# Altium footprint library Net-Tie-I8.PcbLib: 50 footprints (part 2 of 4)
Each footprint in its own frame and in the unit in brackets; x right, y up, seen from the top. Pads: shape width x height; smd on the part's side, far side on the other; paste and mask are expansions set on the pad; w line width, h text height; cw(c..) or ccw(c..) is an arc to the next point about the centre after c.
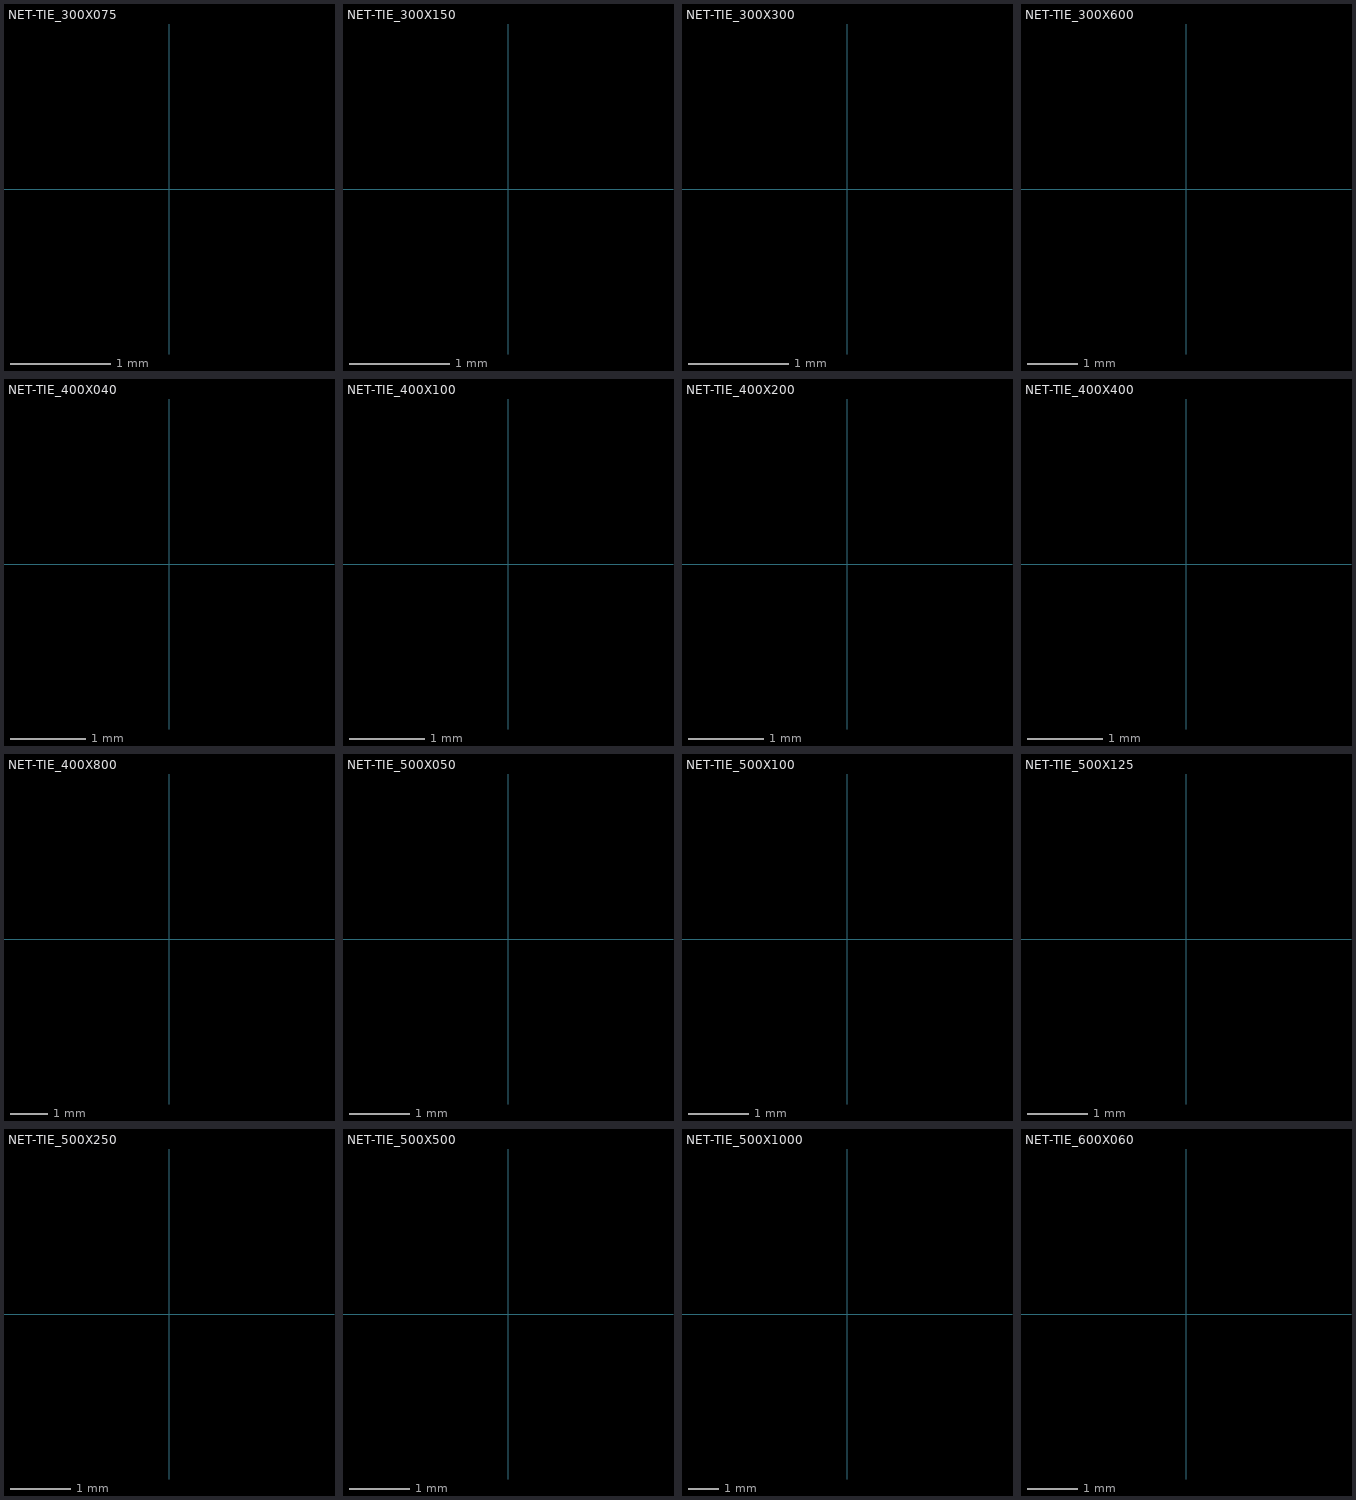
[diagram p1: the footprints below, top view; thin cyan lines are the x and y axes]

## NET-TIE_300X075 [mil]
pads (2):
  round 1 on Mid8 paste-99999 mask+4: 1(-7.38,0) 2(7.38,0)
Inner 8:
  region: 7.38,-59.06 0,-59.06 0,59.06 7.38,59.06 8.11,59.06 9.54,58.77 10.88,58.21 12.09,57.41 13.12,56.38 13.92,55.17 14.48,53.83 14.76,52.4 14.76,51.67 14.76,-51.67 14.76,-52.4 14.48,-53.83 13.92,-55.17 13.12,-56.38 12.09,-57.41 10.88,-58.21 9.54,-58.77 8.11,-59.06
  region: -14.76,-51.67 -14.76,-52.4 -14.48,-53.83 -13.92,-55.17 -13.12,-56.38 -12.09,-57.41 -10.88,-58.21 -9.54,-58.77 -8.11,-59.06 -7.38,-59.06 0,-59.06 0,59.06 -7.38,59.06 -8.11,59.06 -9.54,58.77 -10.88,58.21 -12.09,57.41 -13.12,56.38 -13.92,55.17 -14.48,53.83 -14.76,52.4 -14.76,51.67

## NET-TIE_300X150 [mil]
pads (2):
  round 1 on Mid8 paste-99999 mask+4: 1(-14.76,0) 2(14.76,0)
Inner 8:
  region: -29.53,-44.29 -29.53,-45.75 -28.96,-48.6 -27.85,-51.28 -26.23,-53.7 -24.18,-55.76 -21.76,-57.37 -19.07,-58.49 -16.22,-59.06 -14.76,-59.06 0,-59.06 0,59.06 -14.76,59.06 -16.22,59.06 -19.07,58.49 -21.76,57.37 -24.18,55.76 -26.23,53.7 -27.85,51.28 -28.96,48.6 -29.53,45.75 -29.53,44.29
  region: 14.76,-59.06 0,-59.06 0,59.06 14.76,59.06 16.22,59.06 19.07,58.49 21.76,57.37 24.18,55.76 26.23,53.7 27.85,51.28 28.96,48.6 29.53,45.75 29.53,44.29 29.53,-44.29 29.53,-45.75 28.96,-48.6 27.85,-51.28 26.23,-53.7 24.18,-55.76 21.76,-57.37 19.07,-58.49 16.22,-59.06

## NET-TIE_300X300 [mil]
pads (2):
  round 1 on Mid8 paste-99999 mask+4: 1(-29.53,0) 2(29.53,0)
Inner 8:
  region: -59.06,-29.53 -59.06,-31.46 -58.55,-35.3 -57.55,-39.04 -56.07,-42.62 -54.13,-45.97 -51.78,-49.04 -49.04,-51.78 -45.97,-54.13 -42.62,-56.07 -39.04,-57.55 -35.3,-58.55 -31.46,-59.06 -29.53,-59.06 0,-59.06 0,59.06 -29.53,59.06 -31.46,59.06 -35.3,58.55 -39.04,57.55 -42.62,56.07 -45.97,54.13 -49.04,51.78 -51.78,49.04 -54.13,45.97 -56.07,42.62 -57.55,39.04 -58.55,35.3 -59.06,31.46 -59.06,29.53
  region: 29.53,-59.06 0,-59.06 0,59.06 29.53,59.06 31.46,59.06 35.3,58.55 39.04,57.55 42.62,56.07 45.97,54.13 49.04,51.78 51.78,49.04 54.13,45.97 56.07,42.62 57.55,39.04 58.55,35.3 59.06,31.46 59.06,29.53 59.06,-29.53 59.06,-31.46 58.55,-35.3 57.55,-39.04 56.07,-42.62 54.13,-45.97 51.78,-49.04 49.04,-51.78 45.97,-54.13 42.62,-56.07 39.04,-57.55 35.3,-58.55 31.46,-59.06

## NET-TIE_300X600 [mil]
pads (2):
  round 1 on Mid8 paste-99999 mask+4: 1(-59.06,0) 2(59.06,0)
Inner 8:
  region: -59.06,-59.06 -61.96,-59.06 -67.73,-58.49 -73.42,-57.35 -78.97,-55.67 -84.33,-53.45 -89.45,-50.71 -94.28,-47.49 -98.76,-43.81 -102.86,-39.71 -106.55,-35.22 -109.77,-30.4 -112.5,-25.28 -114.73,-19.92 -116.41,-14.37 -117.54,-8.68 -118.11,-2.9 -118.11,0 -118.11,2.9 -117.54,8.68 -116.41,14.37 -114.73,19.92 -112.5,25.28 -109.77,30.4 -106.55,35.22 -102.86,39.71 -98.76,43.81 -94.28,47.49 -89.45,50.71 -84.33,53.45 -78.97,55.67 -73.42,57.35 -67.73,58.49 -61.96,59.06 -59.06,59.06 0,59.06 0,-59.06
  region: 59.06,-59.06 0,-59.06 0,59.06 59.06,59.06 61.96,59.06 67.73,58.49 73.42,57.35 78.97,55.67 84.33,53.45 89.45,50.71 94.28,47.49 98.76,43.81 102.86,39.71 106.55,35.22 109.77,30.4 112.5,25.28 114.73,19.92 116.41,14.37 117.54,8.68 118.11,2.9 118.11,0 118.11,-2.9 117.54,-8.68 116.41,-14.37 114.73,-19.92 112.5,-25.28 109.77,-30.4 106.55,-35.22 102.86,-39.71 98.76,-43.81 94.28,-47.49 89.45,-50.71 84.33,-53.45 78.97,-55.67 73.42,-57.35 67.73,-58.49 61.96,-59.05

## NET-TIE_400X040 [mil]
pads (2):
  round 1 on Mid8 paste-99999 mask+4: 1(-3.94,0) 2(3.94,0)
Inner 8:
  region: -7.87,-74.8 -7.87,-75.59 -7.27,-77.03 -6.17,-78.14 -4.72,-78.74 -3.94,-78.74 0,-78.74 0,78.74 -3.94,78.74 -4.72,78.74 -6.17,78.14 -7.27,77.03 -7.87,75.59 -7.87,74.8
  region: 3.94,-78.74 0,-78.74 0,78.74 3.94,78.74 4.72,78.74 6.17,78.14 7.27,77.03 7.87,75.59 7.87,74.8 7.87,-74.8 7.87,-75.59 7.27,-77.03 6.17,-78.14 4.72,-78.74

## NET-TIE_400X100 [mil]
pads (2):
  round 1 on Mid8 paste-99999 mask+4: 1(-9.84,0) 2(9.84,0)
Inner 8:
  region: 9.84,-78.74 0,-78.74 0,78.74 9.84,78.74 10.81,78.74 12.71,78.36 14.5,77.62 16.12,76.54 17.49,75.17 18.56,73.56 19.31,71.77 19.68,69.87 19.68,68.9 19.68,-68.9 19.68,-69.87 19.31,-71.77 18.56,-73.56 17.49,-75.17 16.12,-76.54 14.5,-77.62 12.71,-78.36 10.81,-78.74
  region: -19.68,-68.9 -19.68,-69.87 -19.31,-71.77 -18.56,-73.56 -17.49,-75.17 -16.12,-76.54 -14.5,-77.62 -12.71,-78.36 -10.81,-78.74 -9.84,-78.74 0,-78.74 0,78.74 -9.84,78.74 -10.81,78.74 -12.71,78.36 -14.5,77.62 -16.12,76.54 -17.49,75.17 -18.56,73.56 -19.31,71.77 -19.68,69.87 -19.68,68.9

## NET-TIE_400X200 [mil]
pads (2):
  round 1 on Mid8 paste-99999 mask+4: 1(-19.68,0) 2(19.68,0)
Inner 8:
  region: 19.68,-78.74 0,-78.74 0,78.74 19.68,78.74 21.62,78.74 25.43,77.98 29.01,76.5 32.23,74.35 34.98,71.6 37.13,68.38 38.61,64.8 39.37,60.99 39.37,59.06 39.37,-59.06 39.37,-60.99 38.61,-64.8 37.13,-68.38 34.98,-71.6 32.23,-74.35 29.01,-76.5 25.43,-77.98 21.62,-78.74
  region: -39.37,-59.06 -39.37,-60.99 -38.61,-64.8 -37.13,-68.38 -34.98,-71.6 -32.23,-74.35 -29.01,-76.5 -25.43,-77.98 -21.62,-78.74 -19.68,-78.74 0,-78.74 0,78.74 -19.68,78.74 -21.62,78.74 -25.43,77.98 -29.01,76.5 -32.23,74.35 -34.98,71.6 -37.13,68.38 -38.61,64.8 -39.37,60.99 -39.37,59.06

## NET-TIE_400X400 [mil]
pads (2):
  round 1 on Mid8 paste-99999 mask+4: 1(-39.37,0) 2(39.37,0)
Inner 8:
  region: 39.37,-78.74 0,-78.74 0,78.74 39.37,78.74 41.95,78.74 47.07,78.07 52.05,76.73 56.82,74.76 61.29,72.18 65.38,69.03 69.03,65.38 72.18,61.29 74.76,56.82 76.73,52.05 78.07,47.07 78.74,41.95 78.74,39.37 78.74,-39.37 78.74,-41.95 78.07,-47.07 76.73,-52.05 74.76,-56.82 72.18,-61.29 69.03,-65.38 65.38,-69.03 61.29,-72.18 56.82,-74.76 52.05,-76.73 47.07,-78.07 41.95,-78.74
  region: -78.74,-39.37 -78.74,-41.95 -78.07,-47.07 -76.73,-52.05 -74.76,-56.82 -72.18,-61.29 -69.03,-65.38 -65.38,-69.03 -61.29,-72.18 -56.82,-74.76 -52.05,-76.73 -47.07,-78.07 -41.95,-78.74 -39.37,-78.74 0,-78.74 0,78.74 -39.37,78.74 -41.95,78.74 -47.07,78.07 -52.05,76.73 -56.82,74.76 -61.29,72.18 -65.38,69.03 -69.03,65.38 -72.18,61.29 -74.76,56.82 -76.73,52.05 -78.07,47.07 -78.74,41.95 -78.74,39.37

## NET-TIE_400X800 [mil]
pads (2):
  round 1 on Mid8 paste-99999 mask+4: 1(-78.74,0) 2(78.74,0)
Inner 8:
  region: -78.74,-78.74 -82.61,-78.74 -90.31,-77.98 -97.9,-76.47 -105.3,-74.23 -112.45,-71.27 -119.27,-67.62 -125.7,-63.32 -131.68,-58.41 -137.15,-52.94 -142.06,-46.96 -146.36,-40.53 -150.01,-33.71 -152.97,-26.56 -155.21,-19.16 -156.72,-11.57 -157.48,-3.87 -157.48,0 -157.48,3.87 -156.72,11.57 -155.21,19.16 -152.97,26.56 -150.01,33.71 -146.36,40.53 -142.06,46.96 -137.15,52.94 -131.68,58.41 -125.7,63.32 -119.27,67.62 -112.45,71.27 -105.3,74.23 -97.9,76.47 -90.31,77.98 -82.61,78.74 -78.74,78.74 0,78.74 0,-78.74
  region: 78.74,-78.74 0,-78.74 0,78.74 78.74,78.74 82.61,78.74 90.31,77.98 97.9,76.47 105.3,74.23 112.45,71.27 119.27,67.62 125.7,63.32 131.68,58.41 137.15,52.94 142.06,46.96 146.36,40.53 150.01,33.71 152.97,26.56 155.21,19.16 156.72,11.57 157.48,3.87 157.48,0 157.48,-3.87 156.72,-11.57 155.21,-19.16 152.97,-26.56 150.01,-33.71 146.36,-40.53 142.06,-46.96 137.15,-52.94 131.68,-58.41 125.7,-63.32 119.27,-67.62 112.45,-71.27 105.3,-74.23 97.9,-76.47 90.31,-77.98 82.61,-78.74

## NET-TIE_500X050 [mil]
pads (2):
  round 1 on Mid8 paste-99999 mask+4: 1(-4.92,0) 2(4.92,0)
Inner 8:
  region: 4.92,-98.43 0,-98.43 0,98.43 4.92,98.43 5.9,98.43 7.71,97.68 9.09,96.29 9.84,94.48 9.84,93.5 9.84,-93.5 9.84,-94.48 9.09,-96.29 7.71,-97.68 5.9,-98.43
  region: -9.84,-93.5 -9.84,-94.48 -9.09,-96.29 -7.71,-97.68 -5.9,-98.43 -4.92,-98.43 0,-98.43 0,98.43 -4.92,98.43 -5.9,98.43 -7.71,97.68 -9.09,96.29 -9.84,94.48 -9.84,93.5

## NET-TIE_500X100 [mil]
pads (2):
  round 1 on Mid8 paste-99999 mask+4: 1(-9.84,0) 2(9.84,0)
Inner 8:
  region: 9.84,-98.43 0,-98.43 0,98.43 9.84,98.43 10.81,98.43 12.71,98.05 14.5,97.31 16.12,96.23 17.49,94.86 18.56,93.24 19.31,91.45 19.68,89.55 19.68,88.58 19.68,-88.58 19.68,-89.55 19.31,-91.45 18.56,-93.24 17.49,-94.86 16.12,-96.23 14.5,-97.31 12.71,-98.05 10.81,-98.43
  region: -19.68,-88.58 -19.68,-89.55 -19.31,-91.45 -18.56,-93.24 -17.49,-94.86 -16.12,-96.23 -14.5,-97.31 -12.71,-98.05 -10.81,-98.43 -9.84,-98.43 0,-98.43 0,98.43 -9.84,98.43 -10.81,98.43 -12.71,98.05 -14.5,97.31 -16.12,96.23 -17.49,94.86 -18.56,93.24 -19.31,91.45 -19.68,89.55 -19.68,88.58

## NET-TIE_500X125 [mil]
pads (2):
  round 1 on Mid8 paste-99999 mask+4: 1(-12.3,0) 2(12.3,0)
Inner 8:
  region: 12.3,-98.43 0,-98.43 0,98.43 12.3,98.43 13.51,98.43 15.89,97.95 18.13,97.02 20.15,95.68 21.86,93.96 23.21,91.95 24.13,89.71 24.61,87.33 24.61,86.12 24.61,-86.12 24.61,-87.33 24.13,-89.71 23.21,-91.95 21.86,-93.96 20.15,-95.68 18.13,-97.02 15.89,-97.95 13.51,-98.43
  region: -24.61,-86.12 -24.61,-87.33 -24.13,-89.71 -23.21,-91.95 -21.86,-93.96 -20.15,-95.68 -18.13,-97.02 -15.89,-97.95 -13.51,-98.43 -12.3,-98.43 0,-98.43 0,98.43 -12.3,98.43 -13.51,98.43 -15.89,97.95 -18.13,97.02 -20.15,95.68 -21.86,93.96 -23.21,91.95 -24.13,89.71 -24.61,87.33 -24.61,86.12

## NET-TIE_500X250 [mil]
pads (2):
  round 1 on Mid8 paste-99999 mask+4: 1(-24.61,0) 2(24.61,0)
Inner 8:
  region: -49.21,-73.82 -49.21,-75.43 -48.79,-78.63 -47.96,-81.75 -46.72,-84.73 -45.11,-87.52 -43.15,-90.08 -40.87,-92.36 -38.31,-94.32 -35.51,-95.93 -32.53,-97.17 -29.42,-98 -26.22,-98.43 -24.61,-98.43 0,-98.43 0,98.43 -24.61,98.43 -26.22,98.43 -29.42,98 -32.53,97.17 -35.51,95.93 -38.31,94.32 -40.87,92.36 -43.15,90.08 -45.11,87.52 -46.72,84.73 -47.96,81.75 -48.79,78.63 -49.21,75.43 -49.21,73.82
  region: 24.61,-98.43 0,-98.43 0,98.43 24.61,98.43 26.22,98.43 29.42,98 32.53,97.17 35.51,95.93 38.31,94.32 40.87,92.36 43.15,90.08 45.11,87.52 46.72,84.73 47.96,81.75 48.79,78.63 49.21,75.43 49.21,73.82 49.21,-73.82 49.21,-75.43 48.79,-78.63 47.96,-81.75 46.72,-84.73 45.11,-87.52 43.15,-90.08 40.87,-92.36 38.31,-94.32 35.51,-95.93 32.53,-97.17 29.42,-98 26.22,-98.43

## NET-TIE_500X500 [mil]
pads (2):
  round 1 on Mid8 paste-99999 mask+4: 1(-49.21,0) 2(49.21,0)
Inner 8:
  region: -98.43,-49.21 -98.43,-51.63 -97.95,-56.44 -97.01,-61.18 -95.6,-65.81 -93.75,-70.28 -91.47,-74.54 -88.79,-78.56 -85.72,-82.3 -82.3,-85.72 -78.56,-88.79 -74.54,-91.47 -70.28,-93.75 -65.81,-95.6 -61.18,-97.01 -56.44,-97.95 -51.63,-98.43 -49.21,-98.43 0,-98.43 0,98.43 -49.21,98.43 -51.63,98.43 -56.44,97.95 -61.18,97.01 -65.81,95.6 -70.28,93.75 -74.54,91.47 -78.56,88.79 -82.3,85.72 -85.72,82.3 -88.79,78.56 -91.47,74.54 -93.75,70.28 -95.6,65.81 -97.01,61.18 -97.95,56.44 -98.43,51.63 -98.43,49.21
  region: 49.21,-98.43 0,-98.43 0,98.43 49.21,98.43 51.63,98.43 56.44,97.95 61.18,97.01 65.81,95.6 70.28,93.75 74.54,91.47 78.56,88.79 82.3,85.72 85.72,82.3 88.79,78.56 91.47,74.54 93.75,70.28 95.6,65.81 97.01,61.18 97.95,56.44 98.43,51.63 98.43,49.21 98.43,-49.21 98.43,-51.63 97.95,-56.44 97.01,-61.18 95.6,-65.81 93.75,-70.28 91.47,-74.54 88.79,-78.56 85.72,-82.3 82.3,-85.72 78.56,-88.79 74.54,-91.47 70.28,-93.75 65.81,-95.6 61.18,-97.01 56.44,-97.95 51.63,-98.43

## NET-TIE_500X1000 [mil]
pads (2):
  round 1 on Mid8 paste-99999 mask+4: 1(-98.43,0) 2(98.43,0)
Inner 8:
  region: -98.43,-98.43 -102.29,-98.43 -110,-97.82 -117.64,-96.61 -125.16,-94.8 -132.52,-92.41 -139.66,-89.45 -146.55,-85.94 -153.15,-81.9 -159.41,-77.35 -165.29,-72.33 -170.76,-66.86 -175.78,-60.98 -180.33,-54.72 -184.37,-48.13 -187.88,-41.24 -190.84,-34.09 -193.23,-26.74 -195.03,-19.22 -196.24,-11.58 -196.85,-3.87 -196.85,0 -196.85,3.87 -196.24,11.58 -195.03,19.22 -193.23,26.74 -190.84,34.09 -187.88,41.24 -184.37,48.13 -180.33,54.72 -175.78,60.98 -170.76,66.86 -165.29,72.33 -159.41,77.35 -153.15,81.9 -146.55,85.94 -139.66,89.45 -132.52,92.41 -125.16,94.8 -117.64,96.61 -110,97.82 -102.29,98.43 -98.43,98.43 0,98.43 0,-98.43
  region: 98.43,-98.43 0,-98.43 0,98.43 98.43,98.43 102.29,98.43 110,97.82 117.64,96.61 125.16,94.8 132.52,92.41 139.66,89.45 146.55,85.94 153.15,81.9 159.41,77.35 165.29,72.33 170.76,66.86 175.78,60.98 180.33,54.72 184.37,48.13 187.88,41.24 190.84,34.09 193.23,26.74 195.03,19.22 196.24,11.58 196.85,3.87 196.85,0 196.85,-3.87 196.24,-11.58 195.03,-19.22 193.23,-26.74 190.84,-34.09 187.88,-41.24 184.37,-48.13 180.33,-54.72 175.78,-60.98 170.76,-66.86 165.29,-72.33 159.41,-77.35 153.15,-81.9 146.55,-85.94 139.66,-89.45 132.52,-92.41 125.16,-94.8 117.64,-96.61 110,-97.82 102.29,-98.43

## NET-TIE_600X060 [mil]
pads (2):
  round 1 on Mid8 paste-99999 mask+4: 1(-5.91,0) 2(5.91,0)
Inner 8:
  region: 5.91,-118.11 0,-118.11 0,118.11 5.91,118.11 6.49,118.11 7.63,117.88 8.7,117.44 9.67,116.79 10.49,115.97 11.14,115 11.58,113.93 11.81,112.79 11.81,112.2 11.81,-112.2 11.81,-112.79 11.58,-113.93 11.14,-115 10.49,-115.97 9.67,-116.79 8.7,-117.44 7.63,-117.88 6.49,-118.11
  region: -11.81,-112.2 -11.81,-112.79 -11.58,-113.93 -11.14,-115 -10.49,-115.97 -9.67,-116.79 -8.7,-117.44 -7.63,-117.88 -6.49,-118.11 -5.91,-118.11 0,-118.11 0,118.11 -5.91,118.11 -6.49,118.11 -7.63,117.88 -8.7,117.44 -9.67,116.79 -10.49,115.97 -11.14,115 -11.58,113.93 -11.81,112.79 -11.81,112.2